# Altium schematic symbol library Schlib1.SchLib: 2 symbols
Pins are listed as number, name and electrical type; pins without a type are passive.

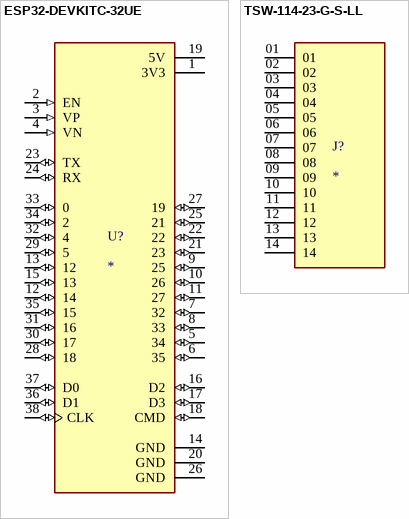
[diagram p0: symbols ESP32-DEVKITC-32UE to TSW-114-23-G-S-LL]

## ESP32-DEVKITC-32UE
designator U?
ESP32-WROOM-32UE series Transceiver; 802.11 b/g/n (Wi-Fi, WiFi, WLAN), BluetoothÂ® Smart Ready 4.x Dual Mode Evaluation Board; MP: ESP32-DEVKITC-32UE; MF: Espressif Systems; Package: None; Price: None; Availability: In Stock; Value: *; Check_prices: https://www.snapeda.com/parts/ESP32-DEVKITC-32UE/Espressif+Systems/view-part/?ref=eda; Purchase-URL: https://pricing.snapeda.com/search/part/ESP32-DEVKITC-32UE/?ref=eda; SnapEDA_Link: https://www.snapeda.com/parts/ESP32-DEVKITC-32UE/Espressif+Systems/view-part/?ref=snap
footprint ESPRESSIF_ESP32-DEVKITC-32UE
pins: 1 3V3 (power), 2 EN (in), 3 VP (in), 4 VN (in), 5 34 (io), 6 35 (io), 7 32 (io), 8 33 (io), 9 25 (io), 10 26 (io), 11 27 (io), 12 14 (io), 13 12 (io), 14 GND (power), 15 13 (io), 16 D2 (io), 17 D3 (io), 18 CMD (io), 19 5V (power), 20 GND (power), 21 23 (io), 22 (io), 23 TX (io), 24 RX (io), 25 21 (io), 26 GND (power), 27 19 (io), 28 18 (io), 29 5 (io), 30 17 (io), 31 16 (io), 32 4 (io), 33 0 (io), 34 2 (io), 35 15 (io), 36 D1 (io), 37 D0 (io), 38 CLK (io)

## TSW-114-23-G-S-LL
designator J?
MP: TSW-114-23-G-S-LL; Package: None; Price: None; Value: *; Availability: Unavailable
footprint SAMTEC_TSW-114-23-G-S-LL
pins: 01, 02, 03, 04, 05, 06, 07, 08, 09, 10, 11, 12, 13, 14